# EAGLE library part AE5592H-1590 (library saw-filters-narrowband)
AE5592H-1590 Параметр Ед. изм. Мин. значение Тип. значение Макс. значение Центральная частота МГц 1587 1590 1593 Минимальное вносимое затухание дБ 1.9 2.1 2.3 Полоса среза по уровню -1 дБ МГц 56 60 64 Полоса среза по уровню -15 дБ МГц - 100 - Неравномерность АЧХ дБ - 0.9 1.8 Групповое время задержки нс - 5 - Гарантированное затухание дБ - 30 - Температурный диапазон °C -55 22 +85 Материал подложки - - Ниобат лития 64 -
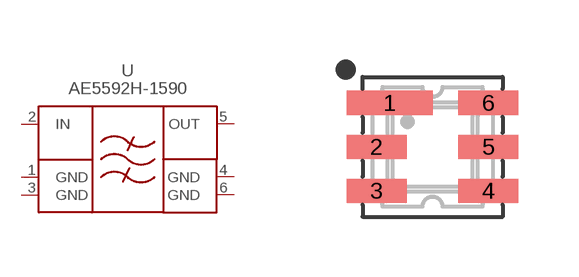
[diagram p6: symbol with the pads of DCC6; footprint DCC6]

Designator prefix -

## AE5592H-1590  [DCC6]
1  GND  pwr
2  IN  in
3  GND  pwr
4  GND  pwr
5  OUT  out
6  GND  pwr

## Footprint DCC6 (pad centres in mm)
smd 2.15 x 0.6: 1 -1.075,1.1
smd 1.5 x 0.6: 2 -1.4,0; 3 -1.4,-1.1; 4 1.4,-1.1; 5 1.4,0; 6 1.4,1.1